# Altium integrated library HexaPod - Peripherie.IntLib: 1 symbol
Pins are listed as number, name and electrical type; pins without a type are passive.

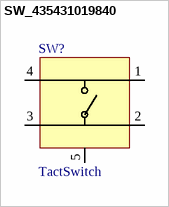
[diagram p0: symbol SW_435431019840]

## SW_435431019840
designator SW?, comment TactSwitch
Tact Switch Orange; Part Number: SW_435431019840; Manufacturer: Wurth Elektronik; Manufacturer Part Number: 435431019840; Type: Tactile Switch; Datasheet: https://www.we-online.com/components/products/datasheet/435431019840.pdf; Operating Temperatur: -55°C - +125°C; Mouser: https://www.mouser.de/ProductDetail/Wurth-Elektronik/435431019840?qs=ufv2HEpFn%252BTUmNs1zSbbLg%3D%3D
footprint TactSwitch
pins: 1, 2, 3, 4, 5 GNF